# Altium schematic symbol library CAP,Cer,10uF,50VDC,X5R,1206.Schlib: 1 symbol
Pins are listed as number, name and electrical type; pins without a type are passive.

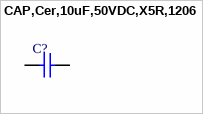
[diagram p0: symbol CAP,Cer,10uF,50VDC,X5R,1206]

## CAP,Cer,10uF,50VDC,X5R,1206
designator C?
pins: 1, 2